# Altium integrated library PTS645SK43SMTR92LFS.IntLib: 1 symbol
Pins are listed as number, name and electrical type; pins without a type are passive.

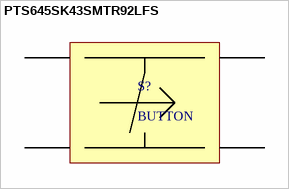
[diagram p0: symbol PTS645SK43SMTR92LFS]

## PTS645SK43SMTR92LFS
designator S?, comment BUTTON
PTS645SK43SMTR92LFS Tactile bushbutton, C&K Components
footprint PTS645SK43SMTR92LFS (Tactile button, C&K)
pins: 1, 2, 3, 4